# Altium integrated library Resistor - Current Sense.IntLib: 810 symbols (part 4 of 12)
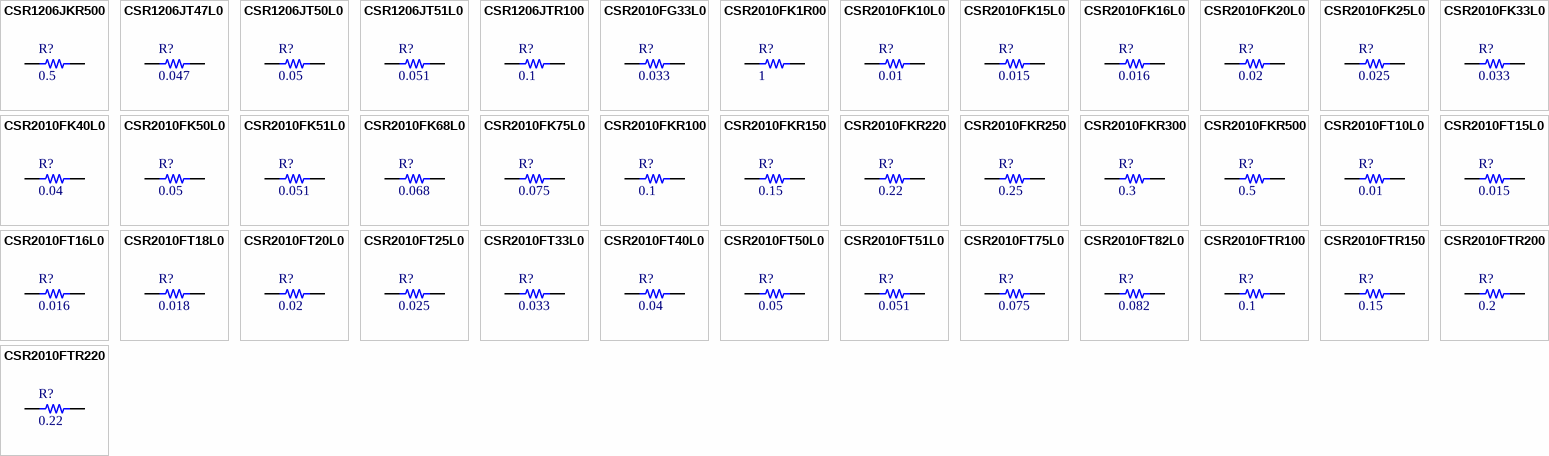
[diagram p23: symbols CSR1206JKR500 to CSR2010FTR220]

## CSR2010FK33L0
designator R?, comment 0.033
RES SMD 0.033 OHM 1% 1W 2010; Part Number: CSR2010FK33L0; Manufacturer: Stackpole Electronics Inc.; TemperatureRange: -55C ~ 155C; Value: 0.033; PartId: 10028; Supplier 1: Digi-Key; Supplier Part Number 1: CSR2010FK33L0-ND; ComponentLink1Description: Datasheet; ComponentLink1URL: http://www.seielect.com/catalog/SEI-CSR_CSRN.pdf; ComponentLink2Description: Digi-Key Listing; ComponentLink2URL: https://www.digikey.com/product-detail/en/stackpole-electronics-inc/CSR2010FK33L0/CSR2010FK33L0-ND/1742324; Tolerance: 1%; PowerRating: 1W; Price: 0.1787; Device Package: 2010 (5025 Metric)
footprint STACKPOLE CSR2010
pins: 1, 2

## CSR2010FK40L0
designator R?, comment 0.04
RES SMD 0.04 OHM 1% 1W 2010; Part Number: CSR2010FK40L0; Manufacturer: Stackpole Electronics Inc.; TemperatureRange: -55C ~ 155C; Value: 0.04; PartId: 10029; Supplier 1: Digi-Key; Supplier Part Number 1: CSR2010FK40L0-ND; ComponentLink1Description: Datasheet; ComponentLink1URL: http://www.seielect.com/catalog/SEI-CSR_CSRN.pdf; ComponentLink2Description: Digi-Key Listing; ComponentLink2URL: https://www.digikey.com/product-detail/en/stackpole-electronics-inc/CSR2010FK40L0/CSR2010FK40L0-ND/1742326; Tolerance: 1%; PowerRating: 1W; Price: 0.1787; Device Package: 2010 (5025 Metric)
footprint STACKPOLE CSR2010
pins: 1, 2

## CSR2010FK50L0
designator R?, comment 0.05
RES SMD 0.05 OHM 1% 1W 2010; Part Number: CSR2010FK50L0; Manufacturer: Stackpole Electronics Inc.; TemperatureRange: -55C ~ 155C; TemperatureCoefficient: 100ppm/C; Value: 0.05; PartId: 10030; Supplier 1: Digi-Key; Supplier Part Number 1: CSR2010FK50L0-ND; ComponentLink1Description: Datasheet; ComponentLink1URL: http://www.seielect.com/catalog/SEI-CSR_CSRN.pdf; ComponentLink2Description: Digi-Key Listing; ComponentLink2URL: https://www.digikey.com/product-detail/en/stackpole-electronics-inc/CSR2010FK50L0/CSR2010FK50L0-ND/1742328; Tolerance: 1%; PowerRating: 1W; Price: 0.1787; Device Package: 2010 (5025 Metric)
footprint STACKPOLE CSR2010
pins: 1, 2

## CSR2010FK51L0
designator R?, comment 0.051
RES SMD 0.051 OHM 1% 1W 2010; Part Number: CSR2010FK51L0; Manufacturer: Stackpole Electronics Inc.; TemperatureRange: -55C ~ 155C; TemperatureCoefficient: 100ppm/C; Value: 0.051; PartId: 10017; Supplier 1: Digi-Key; Supplier Part Number 1: CSR2010FK51L0-ND; ComponentLink1Description: Datasheet; ComponentLink1URL: http://www.seielect.com/catalog/SEI-CSR_CSRN.pdf; ComponentLink2Description: Digi-Key Listing; ComponentLink2URL: https://www.digikey.com/product-detail/en/stackpole-electronics-inc/CSR2010FK51L0/CSR2010FK51L0-ND/1742330; Tolerance: 1%; PowerRating: 1W; Price: 0.1526; Device Package: 2010 (5025 Metric)
footprint STACKPOLE CSR2010
pins: 1, 2

## CSR2010FK68L0
designator R?, comment 0.068
RES SMD 0.068 OHM 1% 1W 2010; Part Number: CSR2010FK68L0; Manufacturer: Stackpole Electronics Inc.; TemperatureRange: -55C ~ 155C; TemperatureCoefficient: 100ppm/C; Value: 0.068; PartId: 10018; Supplier 1: Digi-Key; Supplier Part Number 1: CSR2010FK68L0-ND; ComponentLink1Description: Datasheet; ComponentLink1URL: http://www.seielect.com/catalog/SEI-CSR_CSRN.pdf; ComponentLink2Description: Digi-Key Listing; ComponentLink2URL: https://www.digikey.com/product-detail/en/stackpole-electronics-inc/CSR2010FK68L0/CSR2010FK68L0-ND/1742332; Tolerance: 1%; PowerRating: 1W; Price: 0.1526; Device Package: 2010 (5025 Metric)
footprint STACKPOLE CSR2010
pins: 1, 2

## CSR2010FK75L0
designator R?, comment 0.075
RES SMD 0.075 OHM 1% 1W 2010; Part Number: CSR2010FK75L0; Manufacturer: Stackpole Electronics Inc.; TemperatureRange: -55C ~ 155C; TemperatureCoefficient: 100ppm/C; Value: 0.075; PartId: 10019; Supplier 1: Digi-Key; Supplier Part Number 1: CSR2010FK75L0-ND; ComponentLink1Description: Datasheet; ComponentLink1URL: http://www.seielect.com/catalog/SEI-CSR_CSRN.pdf; ComponentLink2Description: Digi-Key Listing; ComponentLink2URL: https://www.digikey.com/product-detail/en/stackpole-electronics-inc/CSR2010FK75L0/CSR2010FK75L0-ND/1742333; Tolerance: 1%; PowerRating: 1W; Price: 0.1526; Device Package: 2010 (5025 Metric)
footprint STACKPOLE CSR2010
pins: 1, 2

## CSR2010FKR100
designator R?, comment 0.1
RES SMD 0.1 OHM 1% 1W 2010; Part Number: CSR2010FKR100; Manufacturer: Stackpole Electronics Inc.; TemperatureRange: -55C ~ 155C; TemperatureCoefficient: 100ppm/C; Value: 0.1; PartId: 10020; Supplier 1: Digi-Key; Supplier Part Number 1: CSR2010FKR100-ND; ComponentLink1Description: Datasheet; ComponentLink1URL: http://www.seielect.com/catalog/SEI-CSR_CSRN.pdf; ComponentLink2Description: Digi-Key Listing; ComponentLink2URL: https://www.digikey.com/product-detail/en/stackpole-electronics-inc/CSR2010FKR100/CSR2010FKR100-ND/1742336; Tolerance: 1%; PowerRating: 1W; Price: 0.1526; Device Package: 2010 (5025 Metric)
footprint STACKPOLE CSR2010
pins: 1, 2

## CSR2010FKR150
designator R?, comment 0.15
RES SMD 0.15 OHM 1% 1W 2010; Part Number: CSR2010FKR150; Manufacturer: Stackpole Electronics Inc.; TemperatureRange: -55C ~ 155C; TemperatureCoefficient: 100ppm/C; Value: 0.15; PartId: 10008; Supplier 1: Digi-Key; Supplier Part Number 1: CSR2010FKR150-ND; ComponentLink1Description: Datasheet; ComponentLink1URL: http://www.seielect.com/catalog/SEI-CSR_CSRN.pdf; ComponentLink2Description: Digi-Key Listing; ComponentLink2URL: https://www.digikey.com/product-detail/en/stackpole-electronics-inc/CSR2010FKR150/CSR2010FKR150-ND/1742338; Tolerance: 1%; PowerRating: 1W; Price: 0.126; Device Package: 2010 (5025 Metric)
footprint STACKPOLE CSR2010
pins: 1, 2

## CSR2010FKR220
designator R?, comment 0.22
RES SMD 0.22 OHM 1% 1W 2010; Part Number: CSR2010FKR220; Manufacturer: Stackpole Electronics Inc.; TemperatureRange: -55C ~ 155C; TemperatureCoefficient: 100ppm/C; Value: 0.22; PartId: 10009; Supplier 1: Digi-Key; Supplier Part Number 1: CSR2010FKR220-ND; ComponentLink1Description: Datasheet; ComponentLink1URL: http://www.seielect.com/catalog/SEI-CSR_CSRN.pdf; ComponentLink2Description: Digi-Key Listing; ComponentLink2URL: https://www.digikey.com/product-detail/en/stackpole-electronics-inc/CSR2010FKR220/CSR2010FKR220-ND/1742342; Tolerance: 1%; PowerRating: 1W; Price: 0.126; Device Package: 2010 (5025 Metric)
footprint STACKPOLE CSR2010
pins: 1, 2

## CSR2010FKR250
designator R?, comment 0.25
RES SMD 0.25 OHM 1% 1W 2010; Part Number: CSR2010FKR250; Manufacturer: Stackpole Electronics Inc.; TemperatureRange: -55C ~ 155C; TemperatureCoefficient: 100ppm/C; Value: 0.25; PartId: 10010; Supplier 1: Digi-Key; Supplier Part Number 1: CSR2010FKR250-ND; ComponentLink1Description: Datasheet; ComponentLink1URL: http://www.seielect.com/catalog/SEI-CSR_CSRN.pdf; ComponentLink2Description: Digi-Key Listing; ComponentLink2URL: https://www.digikey.com/product-detail/en/stackpole-electronics-inc/CSR2010FKR250/CSR2010FKR250-ND/1742344; Tolerance: 1%; PowerRating: 1W; Price: 0.126; Device Package: 2010 (5025 Metric)
footprint STACKPOLE CSR2010
pins: 1, 2

## CSR2010FKR300
designator R?, comment 0.3
RES SMD 0.3 OHM 1% 1W 2010; Part Number: CSR2010FKR300; Manufacturer: Stackpole Electronics Inc.; TemperatureRange: -55C ~ 155C; TemperatureCoefficient: 100ppm/C; Value: 0.3; PartId: 10011; Supplier 1: Digi-Key; Supplier Part Number 1: CSR2010FKR300-ND; ComponentLink1Description: Datasheet; ComponentLink1URL: http://www.seielect.com/catalog/SEI-CSR_CSRN.pdf; ComponentLink2Description: Digi-Key Listing; ComponentLink2URL: https://www.digikey.com/product-detail/en/stackpole-electronics-inc/CSR2010FKR300/CSR2010FKR300-ND/1742346; Tolerance: 1%; PowerRating: 1W; Price: 0.126; Device Package: 2010 (5025 Metric)
footprint STACKPOLE CSR2010
pins: 1, 2

## CSR2010FKR500
designator R?, comment 0.5
RES SMD 0.5 OHM 1% 1W 2010; Part Number: CSR2010FKR500; Manufacturer: Stackpole Electronics Inc.; TemperatureRange: -55C ~ 155C; TemperatureCoefficient: 100ppm/C; Value: 0.5; PartId: 9998; Supplier 1: Digi-Key; Supplier Part Number 1: CSR2010FKR500-ND; ComponentLink1Description: Datasheet; ComponentLink1URL: http://www.seielect.com/catalog/SEI-CSR_CSRN.pdf; ComponentLink2Description: Digi-Key Listing; ComponentLink2URL: https://www.digikey.com/product-detail/en/stackpole-electronics-inc/CSR2010FKR500/CSR2010FKR500-ND/1742354; Tolerance: 1%; PowerRating: 1W; Price: 0.098; Device Package: 2010 (5025 Metric)
footprint STACKPOLE CSR2010
pins: 1, 2

## CSR2010FT10L0
designator R?, comment 0.01
RES SMD 0.01 OHM 1% 1W 2010; Part Number: CSR2010FT10L0; Manufacturer: Stackpole Electronics Inc.; TemperatureRange: -55C ~ 155C; Value: 0.01; PartId: 10034; Supplier 1: Digi-Key; Supplier Part Number 1: CSR2010FT10L0TR-ND; ComponentLink1Description: Datasheet; ComponentLink1URL: http://www.seielect.com/catalog/SEI-CSR_CSRN.pdf; ComponentLink2Description: Digi-Key Listing; ComponentLink2URL: https://www.digikey.com/product-detail/en/stackpole-electronics-inc/CSR2010FT10L0/CSR2010FT10L0TR-ND/2027020; Tolerance: 1%; PowerRating: 1W; Price: 0.1862; Device Package: 2010 (5025 Metric)
footprint STACKPOLE CSR2010
pins: 1, 2

## CSR2010FT15L0
designator R?, comment 0.015
RES SMD 0.015 OHM 1% 1W 2010; Part Number: CSR2010FT15L0; Manufacturer: Stackpole Electronics Inc.; TemperatureRange: -55C ~ 155C; Value: 0.015; PartId: 10031; Supplier 1: Digi-Key; Supplier Part Number 1: CSR2010FT15L0-ND; ComponentLink1Description: Datasheet; ComponentLink1URL: http://www.seielect.com/catalog/SEI-CSR_CSRN.pdf; ComponentLink2Description: Digi-Key Listing; ComponentLink2URL: https://www.digikey.com/product-detail/en/stackpole-electronics-inc/CSR2010FT15L0/CSR2010FT15L0-ND/1742314; Tolerance: 1%; PowerRating: 1W; Price: 0.1862; Device Package: 2010 (5025 Metric)
footprint STACKPOLE CSR2010
pins: 1, 2

## CSR2010FT16L0
designator R?, comment 0.016
RES SMD 0.016 OHM 1% 1W 2010; Part Number: CSR2010FT16L0; Manufacturer: Stackpole Electronics Inc.; TemperatureRange: -55C ~ 155C; Value: 0.016; PartId: 10032; Supplier 1: Digi-Key; Supplier Part Number 1: CSR2010FT16L0-ND; ComponentLink1Description: Datasheet; ComponentLink1URL: http://www.seielect.com/catalog/SEI-CSR_CSRN.pdf; ComponentLink2Description: Digi-Key Listing; ComponentLink2URL: https://www.digikey.com/product-detail/en/stackpole-electronics-inc/CSR2010FT16L0/CSR2010FT16L0-ND/1742316; Tolerance: 1%; PowerRating: 1W; Price: 0.1862; Device Package: 2010 (5025 Metric)
footprint STACKPOLE CSR2010
pins: 1, 2

## CSR2010FT18L0
designator R?, comment 0.018
RES SMD 0.018 OHM 1% 1W 2010; Part Number: CSR2010FT18L0; Manufacturer: Stackpole Electronics Inc.; TemperatureRange: -55C ~ 155C; Value: 0.018; PartId: 10033; Supplier 1: Digi-Key; Supplier Part Number 1: CSR2010FT18L0-ND; ComponentLink1Description: Datasheet; ComponentLink1URL: http://www.seielect.com/catalog/SEI-CSR_CSRN.pdf; ComponentLink2Description: Digi-Key Listing; ComponentLink2URL: https://www.digikey.com/product-detail/en/stackpole-electronics-inc/CSR2010FT18L0/CSR2010FT18L0-ND/1742317; Tolerance: 1%; PowerRating: 1W; Price: 0.1862; Device Package: 2010 (5025 Metric)
footprint STACKPOLE CSR2010
pins: 1, 2

## CSR2010FT20L0
designator R?, comment 0.02
RES SMD 0.02 OHM 1% 1W 2010; Part Number: CSR2010FT20L0; Manufacturer: Stackpole Electronics Inc.; TemperatureRange: -55C ~ 155C; Value: 0.02; PartId: 10022; Supplier 1: Digi-Key; Supplier Part Number 1: CSR2010FT20L0-ND; ComponentLink1Description: Datasheet; ComponentLink1URL: http://www.seielect.com/catalog/SEI-CSR_CSRN.pdf; ComponentLink2Description: Digi-Key Listing; ComponentLink2URL: https://www.digikey.com/product-detail/en/stackpole-electronics-inc/CSR2010FT20L0/CSR2010FT20L0-ND/1742319; Tolerance: 1%; PowerRating: 1W; Price: 0.1729; Device Package: 2010 (5025 Metric)
footprint STACKPOLE CSR2010
pins: 1, 2

## CSR2010FT25L0
designator R?, comment 0.025
RES SMD 0.025 OHM 1% 1W 2010; Part Number: CSR2010FT25L0; Manufacturer: Stackpole Electronics Inc.; TemperatureRange: -55C ~ 155C; Value: 0.025; PartId: 10023; Supplier 1: Digi-Key; Supplier Part Number 1: CSR2010FT25L0-ND; ComponentLink1Description: Datasheet; ComponentLink1URL: http://www.seielect.com/catalog/SEI-CSR_CSRN.pdf; ComponentLink2Description: Digi-Key Listing; ComponentLink2URL: https://www.digikey.com/product-detail/en/stackpole-electronics-inc/CSR2010FT25L0/CSR2010FT25L0-ND/1742321; Tolerance: 1%; PowerRating: 1W; Price: 0.1729; Device Package: 2010 (5025 Metric)
footprint STACKPOLE CSR2010
pins: 1, 2

## CSR2010FT33L0
designator R?, comment 0.033
RES SMD 0.033 OHM 1% 1W 2010; Part Number: CSR2010FT33L0; Manufacturer: Stackpole Electronics Inc.; TemperatureRange: -55C ~ 155C; Value: 0.033; PartId: 10024; Supplier 1: Digi-Key; Supplier Part Number 1: CSR2010FT33L0-ND; ComponentLink1Description: Datasheet; ComponentLink1URL: http://www.seielect.com/catalog/SEI-CSR_CSRN.pdf; ComponentLink2Description: Digi-Key Listing; ComponentLink2URL: https://www.digikey.com/product-detail/en/stackpole-electronics-inc/CSR2010FT33L0/CSR2010FT33L0-ND/1742325; Tolerance: 1%; PowerRating: 1W; Price: 0.1729; Device Package: 2010 (5025 Metric)
footprint STACKPOLE CSR2010
pins: 1, 2

## CSR2010FT40L0
designator R?, comment 0.04
RES SMD 0.04 OHM 1% 1W 2010; Part Number: CSR2010FT40L0; Manufacturer: Stackpole Electronics Inc.; TemperatureRange: -55C ~ 155C; Value: 0.04; PartId: 10025; Supplier 1: Digi-Key; Supplier Part Number 1: CSR2010FT40L0-ND; ComponentLink1Description: Datasheet; ComponentLink1URL: http://www.seielect.com/catalog/SEI-CSR_CSRN.pdf; ComponentLink2Description: Digi-Key Listing; ComponentLink2URL: https://www.digikey.com/product-detail/en/stackpole-electronics-inc/CSR2010FT40L0/CSR2010FT40L0-ND/1742327; Tolerance: 1%; PowerRating: 1W; Price: 0.1729; Device Package: 2010 (5025 Metric)
footprint STACKPOLE CSR2010
pins: 1, 2

## CSR2010FT50L0
designator R?, comment 0.05
RES SMD 0.05 OHM 1% 1W 2010; Part Number: CSR2010FT50L0; Manufacturer: Stackpole Electronics Inc.; TemperatureRange: -55C ~ 155C; TemperatureCoefficient: 100ppm/C; Value: 0.05; PartId: 10026; Supplier 1: Digi-Key; Supplier Part Number 1: CSR2010FT50L0-ND; ComponentLink1Description: Datasheet; ComponentLink1URL: http://www.seielect.com/catalog/SEI-CSR_CSRN.pdf; ComponentLink2Description: Digi-Key Listing; ComponentLink2URL: https://www.digikey.com/product-detail/en/stackpole-electronics-inc/CSR2010FT50L0/CSR2010FT50L0-ND/1742329; Tolerance: 1%; PowerRating: 1W; Price: 0.1729; Device Package: 2010 (5025 Metric)
footprint STACKPOLE CSR2010
pins: 1, 2

## CSR2010FT51L0
designator R?, comment 0.051
RES SMD 0.051 OHM 1% 1W 2010; Part Number: CSR2010FT51L0; Manufacturer: Stackpole Electronics Inc.; TemperatureRange: -55C ~ 155C; TemperatureCoefficient: 100ppm/C; Value: 0.051; PartId: 10013; Supplier 1: Digi-Key; Supplier Part Number 1: CSR2010FT51L0-ND; ComponentLink1Description: Datasheet; ComponentLink1URL: http://www.seielect.com/catalog/SEI-CSR_CSRN.pdf; ComponentLink2Description: Digi-Key Listing; ComponentLink2URL: https://www.digikey.com/product-detail/en/stackpole-electronics-inc/CSR2010FT51L0/CSR2010FT51L0-ND/1742331; Tolerance: 1%; PowerRating: 1W; Price: 0.1474; Device Package: 2010 (5025 Metric)
footprint STACKPOLE CSR2010
pins: 1, 2

## CSR2010FT75L0
designator R?, comment 0.075
RES SMD 0.075 OHM 1% 1W 2010; Part Number: CSR2010FT75L0; Manufacturer: Stackpole Electronics Inc.; TemperatureRange: -55C ~ 155C; TemperatureCoefficient: 100ppm/C; Value: 0.075; PartId: 10014; Supplier 1: Digi-Key; Supplier Part Number 1: CSR2010FT75L0-ND; ComponentLink1Description: Datasheet; ComponentLink1URL: http://www.seielect.com/catalog/SEI-CSR_CSRN.pdf; ComponentLink2Description: Digi-Key Listing; ComponentLink2URL: https://www.digikey.com/product-detail/en/stackpole-electronics-inc/CSR2010FT75L0/CSR2010FT75L0-ND/1742334; Tolerance: 1%; PowerRating: 1W; Price: 0.1474; Device Package: 2010 (5025 Metric)
footprint STACKPOLE CSR2010
pins: 1, 2

## CSR2010FT82L0
designator R?, comment 0.082
RES SMD 0.082 OHM 1% 1W 2010; Part Number: CSR2010FT82L0; Manufacturer: Stackpole Electronics Inc.; TemperatureRange: -55C ~ 155C; TemperatureCoefficient: 100ppm/C; Value: 0.082; PartId: 10015; Supplier 1: Digi-Key; Supplier Part Number 1: CSR2010FT82L0-ND; ComponentLink1Description: Datasheet; ComponentLink1URL: http://www.seielect.com/catalog/SEI-CSR_CSRN.pdf; ComponentLink2Description: Digi-Key Listing; ComponentLink2URL: https://www.digikey.com/product-detail/en/stackpole-electronics-inc/CSR2010FT82L0/CSR2010FT82L0-ND/1742335; Tolerance: 1%; PowerRating: 1W; Price: 0.1474; Device Package: 2010 (5025 Metric)
footprint STACKPOLE CSR2010
pins: 1, 2

## CSR2010FTR100
designator R?, comment 0.1
RES SMD 0.1 OHM 1% 1W 2010; Part Number: CSR2010FTR100; Manufacturer: Stackpole Electronics Inc.; TemperatureRange: -55C ~ 155C; TemperatureCoefficient: 100ppm/C; Value: 0.1; PartId: 10016; Supplier 1: Digi-Key; Supplier Part Number 1: CSR2010FTR100-ND; ComponentLink1Description: Datasheet; ComponentLink1URL: http://www.seielect.com/catalog/SEI-CSR_CSRN.pdf; ComponentLink2Description: Digi-Key Listing; ComponentLink2URL: https://www.digikey.com/product-detail/en/stackpole-electronics-inc/CSR2010FTR100/CSR2010FTR100-ND/1742337; Tolerance: 1%; PowerRating: 1W; Price: 0.1474; Device Package: 2010 (5025 Metric)
footprint STACKPOLE CSR2010
pins: 1, 2

## CSR2010FTR150
designator R?, comment 0.15
RES SMD 0.15 OHM 1% 1W 2010; Part Number: CSR2010FTR150; Manufacturer: Stackpole Electronics Inc.; TemperatureRange: -55C ~ 155C; TemperatureCoefficient: 100ppm/C; Value: 0.15; PartId: 9990; Supplier 1: Digi-Key; Supplier Part Number 1: CSR2010FTR150TR-ND; ComponentLink1Description: Datasheet; ComponentLink1URL: http://www.seielect.com/catalog/SEI-CSR_CSRN.pdf; ComponentLink2Description: Digi-Key Listing; ComponentLink2URL: https://www.digikey.com/product-detail/en/stackpole-electronics-inc/CSR2010FTR150/CSR2010FTR150TR-ND/2026994; Tolerance: 1%; PowerRating: 1W; Price: 0.1215; Device Package: 2010 (5025 Metric)
footprint STACKPOLE CSR2010
pins: 1, 2

## CSR2010FTR200
designator R?, comment 0.2
RES SMD 0.2 OHM 1% 1W 2010; Part Number: CSR2010FTR200; Manufacturer: Stackpole Electronics Inc.; TemperatureRange: -55C ~ 155C; TemperatureCoefficient: 100ppm/C; Value: 0.2; PartId: 10001; Supplier 1: Digi-Key; Supplier Part Number 1: CSR2010FTR200-ND; ComponentLink1Description: Datasheet; ComponentLink1URL: http://www.seielect.com/catalog/SEI-CSR_CSRN.pdf; ComponentLink2Description: Digi-Key Listing; ComponentLink2URL: https://www.digikey.com/product-detail/en/stackpole-electronics-inc/CSR2010FTR200/CSR2010FTR200-ND/1742341; Tolerance: 1%; PowerRating: 1W; Price: 0.1215; Device Package: 2010 (5025 Metric)
footprint STACKPOLE CSR2010
pins: 1, 2

## CSR2010FTR220
designator R?, comment 0.22
RES SMD 0.22 OHM 1% 1W 2010; Part Number: CSR2010FTR220; Manufacturer: Stackpole Electronics Inc.; TemperatureRange: -55C ~ 155C; TemperatureCoefficient: 100ppm/C; Value: 0.22; PartId: 10002; Supplier 1: Digi-Key; Supplier Part Number 1: CSR2010FTR220-ND; ComponentLink1Description: Datasheet; ComponentLink1URL: http://www.seielect.com/catalog/SEI-CSR_CSRN.pdf; ComponentLink2Description: Digi-Key Listing; ComponentLink2URL: https://www.digikey.com/product-detail/en/stackpole-electronics-inc/CSR2010FTR220/CSR2010FTR220-ND/1742343; Tolerance: 1%; PowerRating: 1W; Price: 0.1215; Device Package: 2010 (5025 Metric)
footprint STACKPOLE CSR2010
pins: 1, 2

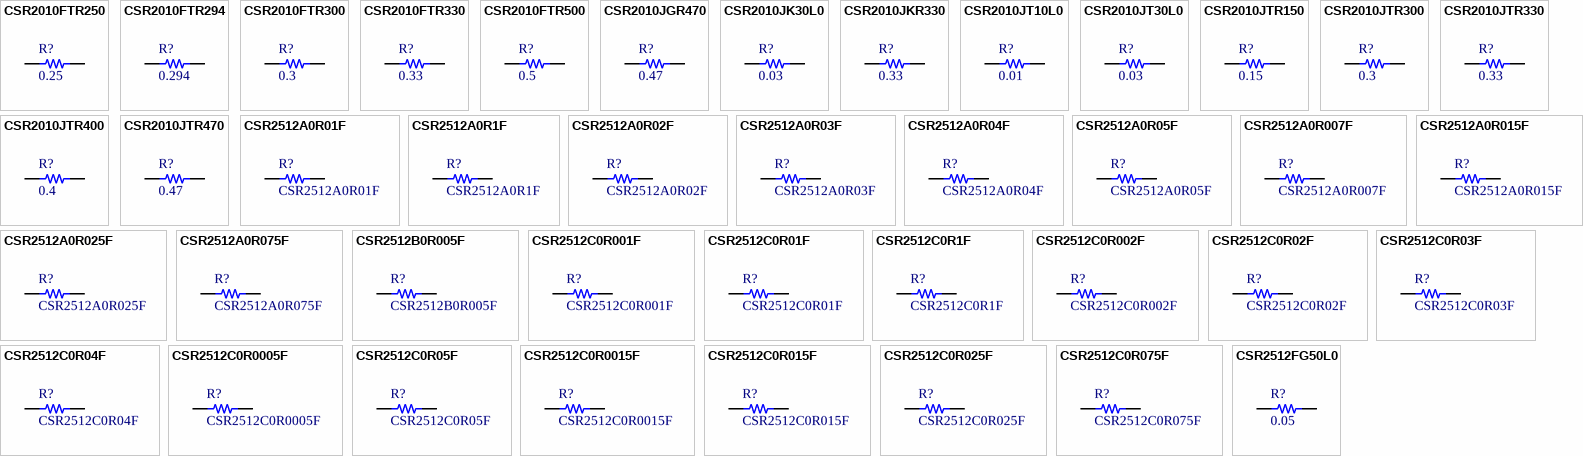
[diagram p6: symbols CSR2010FTR250 to CSR2512FG50L0]

## CSR2010FTR250
designator R?, comment 0.25
RES SMD 0.25 OHM 1% 1W 2010; Part Number: CSR2010FTR250; Manufacturer: Stackpole Electronics Inc.; TemperatureRange: -55C ~ 155C; TemperatureCoefficient: 100ppm/C; Value: 0.25; PartId: 10003; Supplier 1: Digi-Key; Supplier Part Number 1: CSR2010FTR250-ND; ComponentLink1Description: Datasheet; ComponentLink1URL: http://www.seielect.com/catalog/SEI-CSR_CSRN.pdf; ComponentLink2Description: Digi-Key Listing; ComponentLink2URL: https://www.digikey.com/product-detail/en/stackpole-electronics-inc/CSR2010FTR250/CSR2010FTR250-ND/1742345; Tolerance: 1%; PowerRating: 1W; Price: 0.1215; Device Package: 2010 (5025 Metric)
footprint STACKPOLE CSR2010
pins: 1, 2

## CSR2010FTR294
designator R?, comment 0.294
RES SMD 0.294 OHM 1% 1W 2010; Part Number: CSR2010FTR294; Manufacturer: Stackpole Electronics Inc.; TemperatureRange: -55C ~ 155C; TemperatureCoefficient: 100ppm/C; Value: 0.294; PartId: 10006; Supplier 1: Digi-Key; Supplier Part Number 1: CSR2010FTR294TR-ND; ComponentLink1Description: Datasheet; ComponentLink1URL: http://www.seielect.com/catalog/SEI-CSR_CSRN.pdf; ComponentLink2Description: Digi-Key Listing; ComponentLink2URL: https://www.digikey.com/product-detail/en/stackpole-electronics-inc/CSR2010FTR294/CSR2010FTR294TR-ND/2027022; Tolerance: 1%; PowerRating: 1W; Price: 0.1215; Device Package: 2010 (5025 Metric)
footprint STACKPOLE CSR2010
pins: 1, 2

## CSR2010FTR300
designator R?, comment 0.3
RES SMD 0.3 OHM 1% 1W 2010; Part Number: CSR2010FTR300; Manufacturer: Stackpole Electronics Inc.; TemperatureRange: -55C ~ 155C; TemperatureCoefficient: 100ppm/C; Value: 0.3; PartId: 10004; Supplier 1: Digi-Key; Supplier Part Number 1: CSR2010FTR300-ND; ComponentLink1Description: Datasheet; ComponentLink1URL: http://www.seielect.com/catalog/SEI-CSR_CSRN.pdf; ComponentLink2Description: Digi-Key Listing; ComponentLink2URL: https://www.digikey.com/product-detail/en/stackpole-electronics-inc/CSR2010FTR300/CSR2010FTR300-ND/1742347; Tolerance: 1%; PowerRating: 1W; Price: 0.1215; Device Package: 2010 (5025 Metric)
footprint STACKPOLE CSR2010
pins: 1, 2

## CSR2010FTR330
designator R?, comment 0.33
RES SMD 0.33 OHM 1% 1W 2010; Part Number: CSR2010FTR330; Manufacturer: Stackpole Electronics Inc.; TemperatureRange: -55C ~ 155C; TemperatureCoefficient: 100ppm/C; Value: 0.33; PartId: 10005; Supplier 1: Digi-Key; Supplier Part Number 1: CSR2010FTR330-ND; ComponentLink1Description: Datasheet; ComponentLink1URL: http://www.seielect.com/catalog/SEI-CSR_CSRN.pdf; ComponentLink2Description: Digi-Key Listing; ComponentLink2URL: https://www.digikey.com/product-detail/en/stackpole-electronics-inc/CSR2010FTR330/CSR2010FTR330-ND/1742349; Tolerance: 1%; PowerRating: 1W; Price: 0.1215; Device Package: 2010 (5025 Metric)
footprint STACKPOLE CSR2010
pins: 1, 2

## CSR2010FTR500
designator R?, comment 0.5
RES SMD 0.5 OHM 1% 1W 2010; Part Number: CSR2010FTR500; Manufacturer: Stackpole Electronics Inc.; TemperatureRange: -55C ~ 155C; TemperatureCoefficient: 100ppm/C; Value: 0.5; PartId: 9997; Supplier 1: Digi-Key; Supplier Part Number 1: CSR2010FTR500-ND; ComponentLink1Description: Datasheet; ComponentLink1URL: http://www.seielect.com/catalog/SEI-CSR_CSRN.pdf; ComponentLink2Description: Digi-Key Listing; ComponentLink2URL: https://www.digikey.com/product-detail/en/stackpole-electronics-inc/CSR2010FTR500/CSR2010FTR500-ND/1742355; Tolerance: 1%; PowerRating: 1W; Price: 0.0945; Device Package: 2010 (5025 Metric)
footprint STACKPOLE CSR2010
pins: 1, 2

## CSR2010JGR470
designator R?, comment 0.47
RES SMD 0.47 OHM 5% 1W 2010; Part Number: CSR2010JGR470; Manufacturer: Stackpole Electronics Inc.; TemperatureRange: -55C ~ 155C; TemperatureCoefficient: 100ppm/C; Value: 0.47; PartId: 9991; Supplier 1: Digi-Key; Supplier Part Number 1: CSR2010JGR470TR-ND; ComponentLink1Description: Datasheet; ComponentLink1URL: http://www.seielect.com/catalog/SEI-CSR_CSRN.pdf; ComponentLink2Description: Digi-Key Listing; ComponentLink2URL: https://www.digikey.com/product-detail/en/stackpole-electronics-inc/CSR2010JGR470/CSR2010JGR470TR-ND/2027023; Tolerance: 5%; PowerRating: 1W; Price: 0.0675; Device Package: 2010 (5025 Metric)
footprint STACKPOLE CSR2010
pins: 1, 2

## CSR2010JK30L0
designator R?, comment 0.03
RES SMD 0.03 OHM 5% 1W 2010; Part Number: CSR2010JK30L0; Manufacturer: Stackpole Electronics Inc.; TemperatureRange: -55C ~ 155C; Value: 0.03; PartId: 10007; Supplier 1: Digi-Key; Supplier Part Number 1: CSR2010JK30L0-ND; ComponentLink1Description: Datasheet; ComponentLink1URL: http://www.seielect.com/catalog/SEI-CSR_CSRN.pdf; ComponentLink2Description: Digi-Key Listing; ComponentLink2URL: https://www.digikey.com/product-detail/en/stackpole-electronics-inc/CSR2010JK30L0/CSR2010JK30L0-ND/1742322; Tolerance: 5%; PowerRating: 1W; Price: 0.126; Device Package: 2010 (5025 Metric)
footprint STACKPOLE CSR2010
pins: 1, 2

## CSR2010JKR330
designator R?, comment 0.33
RES SMD 0.33 OHM 5% 1W 2010; Part Number: CSR2010JKR330; Manufacturer: Stackpole Electronics Inc.; TemperatureRange: -55C ~ 155C; TemperatureCoefficient: 100ppm/C; Value: 0.33; PartId: 9996; Supplier 1: Digi-Key; Supplier Part Number 1: CSR2010JKR330-ND; ComponentLink1Description: Datasheet; ComponentLink1URL: http://www.seielect.com/catalog/SEI-CSR_CSRN.pdf; ComponentLink2Description: Digi-Key Listing; ComponentLink2URL: https://www.digikey.com/product-detail/en/stackpole-electronics-inc/CSR2010JKR330/CSR2010JKR330-ND/1742350; Tolerance: 5%; PowerRating: 1W; Price: 0.08; Device Package: 2010 (5025 Metric)
footprint STACKPOLE CSR2010
pins: 1, 2

## CSR2010JT10L0
designator R?, comment 0.01
RES SMD 0.01 OHM 5% 1W 2010; Part Number: CSR2010JT10L0; Manufacturer: Stackpole Electronics Inc.; TemperatureRange: -55C ~ 155C; Value: 0.01; PartId: 10012; Supplier 1: Digi-Key; Supplier Part Number 1: CSR2010JT10L0-ND; ComponentLink1Description: Datasheet; ComponentLink1URL: http://www.seielect.com/catalog/SEI-CSR_CSRN.pdf; ComponentLink2Description: Digi-Key Listing; ComponentLink2URL: https://www.digikey.com/product-detail/en/stackpole-electronics-inc/CSR2010JT10L0/CSR2010JT10L0-ND/1742312; Tolerance: 5%; PowerRating: 1W; Price: 0.1474; Device Package: 2010 (5025 Metric)
footprint STACKPOLE CSR2010
pins: 1, 2

## CSR2010JT30L0
designator R?, comment 0.03
RES SMD 0.03 OHM 5% 1W 2010; Part Number: CSR2010JT30L0; Manufacturer: Stackpole Electronics Inc.; TemperatureRange: -55C ~ 155C; Value: 0.03; PartId: 10000; Supplier 1: Digi-Key; Supplier Part Number 1: CSR2010JT30L0-ND; ComponentLink1Description: Datasheet; ComponentLink1URL: http://www.seielect.com/catalog/SEI-CSR_CSRN.pdf; ComponentLink2Description: Digi-Key Listing; ComponentLink2URL: https://www.digikey.com/product-detail/en/stackpole-electronics-inc/CSR2010JT30L0/CSR2010JT30L0-ND/1742323; Tolerance: 5%; PowerRating: 1W; Price: 0.1215; Device Package: 2010 (5025 Metric)
footprint STACKPOLE CSR2010
pins: 1, 2

## CSR2010JTR150
designator R?, comment 0.15
RES SMD 0.15 OHM 5% 1W 2010; Part Number: CSR2010JTR150; Manufacturer: Stackpole Electronics Inc.; TemperatureRange: -55C ~ 155C; TemperatureCoefficient: 100ppm/C; Value: 0.15; PartId: 9992; Supplier 1: Digi-Key; Supplier Part Number 1: CSR2010JTR150-ND; ComponentLink1Description: Datasheet; ComponentLink1URL: http://www.seielect.com/catalog/SEI-CSR_CSRN.pdf; ComponentLink2Description: Digi-Key Listing; ComponentLink2URL: https://www.digikey.com/product-detail/en/stackpole-electronics-inc/CSR2010JTR150/CSR2010JTR150-ND/1742340; Tolerance: 5%; PowerRating: 1W; Price: 0.075; Device Package: 2010 (5025 Metric)
footprint STACKPOLE CSR2010
pins: 1, 2

## CSR2010JTR300
designator R?, comment 0.3
RES SMD 0.3 OHM 5% 1W 2010; Part Number: CSR2010JTR300; Manufacturer: Stackpole Electronics Inc.; TemperatureRange: -55C ~ 155C; TemperatureCoefficient: 100ppm/C; Value: 0.3; PartId: 9989; Supplier 1: Digi-Key; Supplier Part Number 1: CSR2010JTR300TR-ND; ComponentLink1Description: Datasheet; ComponentLink1URL: http://www.seielect.com/catalog/SEI-CSR_CSRN.pdf; ComponentLink2Description: Digi-Key Listing; ComponentLink2URL: https://www.digikey.com/product-detail/en/stackpole-electronics-inc/CSR2010JTR300/CSR2010JTR300TR-ND/1742348; Tolerance: 5%; PowerRating: 1W; Price: 0.075; Device Package: 2010 (5025 Metric)
footprint STACKPOLE CSR2010
pins: 1, 2

## CSR2010JTR330
designator R?, comment 0.33
RES SMD 0.33 OHM 5% 1W 2010; Part Number: CSR2010JTR330; Manufacturer: Stackpole Electronics Inc.; TemperatureRange: -55C ~ 155C; TemperatureCoefficient: 100ppm/C; Value: 0.33; PartId: 9993; Supplier 1: Digi-Key; Supplier Part Number 1: CSR2010JTR330-ND; ComponentLink1Description: Datasheet; ComponentLink1URL: http://www.seielect.com/catalog/SEI-CSR_CSRN.pdf; ComponentLink2Description: Digi-Key Listing; ComponentLink2URL: https://www.digikey.com/product-detail/en/stackpole-electronics-inc/CSR2010JTR330/CSR2010JTR330-ND/1742351; Tolerance: 5%; PowerRating: 1W; Price: 0.075; Device Package: 2010 (5025 Metric)
footprint STACKPOLE CSR2010
pins: 1, 2

## CSR2010JTR400
designator R?, comment 0.4
RES SMD 0.4 OHM 5% 1W 2010; Part Number: CSR2010JTR400; Manufacturer: Stackpole Electronics Inc.; TemperatureRange: -55C ~ 155C; TemperatureCoefficient: 100ppm/C; Value: 0.4; PartId: 9994; Supplier 1: Digi-Key; Supplier Part Number 1: CSR2010JTR400-ND; ComponentLink1Description: Datasheet; ComponentLink1URL: http://www.seielect.com/catalog/SEI-CSR_CSRN.pdf; ComponentLink2Description: Digi-Key Listing; ComponentLink2URL: https://www.digikey.com/product-detail/en/stackpole-electronics-inc/CSR2010JTR400/CSR2010JTR400-ND/1742352; Tolerance: 5%; PowerRating: 1W; Price: 0.075; Device Package: 2010 (5025 Metric)
footprint STACKPOLE CSR2010
pins: 1, 2

## CSR2010JTR470
designator R?, comment 0.47
RES SMD 0.47 OHM 5% 1W 2010; Part Number: CSR2010JTR470; Manufacturer: Stackpole Electronics Inc.; TemperatureRange: -55C ~ 155C; TemperatureCoefficient: 100ppm/C; Value: 0.47; PartId: 9995; Supplier 1: Digi-Key; Supplier Part Number 1: CSR2010JTR470-ND; ComponentLink1Description: Datasheet; ComponentLink1URL: http://www.seielect.com/catalog/SEI-CSR_CSRN.pdf; ComponentLink2Description: Digi-Key Listing; ComponentLink2URL: https://www.digikey.com/product-detail/en/stackpole-electronics-inc/CSR2010JTR470/CSR2010JTR470-ND/1742353; Tolerance: 5%; PowerRating: 1W; Price: 0.075; Device Package: 2010 (5025 Metric)
footprint STACKPOLE CSR2010
pins: 1, 2

## CSR2512A0R01F
designator R?
RES SMD 0.01 OHM 1% 2W 2512; Manufacturer: Riedon; Value: 0.01; TemperatureRange: -55C ~ 170C; TemperatureCoefficient: 50ppm/C; Part Number: CSR2512A0R01F; PartId: 21410; Supplier 1: Digi-Key; Supplier Part Number 1: 696-1180-2-ND; ComponentLink1Description: Datasheet; ComponentLink1URL: http://riedon.com/media/pdf/CSR.pdf; ComponentLink2Description: Digi-Key Listing; ComponentLink2URL: https://www.digikey.com/product-detail/en/riedon/CSR2512A0R01F/696-1180-2-ND/2813300; Tolerance: 1%; PowerRating: 2W; Price: 0.1928; Device Package: 2512 (6432 Metric)
footprint STACKPOLE CSR2512
pins: 1, 2

## CSR2512A0R1F
designator R?
RES SMD 0.1 OHM 1% 2W 2512; Manufacturer: Riedon; Value: 0.1; TemperatureRange: -55C ~ 170C; TemperatureCoefficient: 50ppm/C; Part Number: CSR2512A0R1F; PartId: 21362; Supplier 1: Digi-Key; Supplier Part Number 1: 696-1671-2-ND; ComponentLink1Description: Datasheet; ComponentLink1URL: http://riedon.com/media/pdf/CSR.pdf; ComponentLink2Description: Digi-Key Listing; ComponentLink2URL: https://www.digikey.com/product-detail/en/riedon/CSR2512A0R1F/696-1671-2-ND/5723633; Tolerance: 1%; PowerRating: 2W; Price: 0.1729; Device Package: 2512 (6432 Metric)
footprint STACKPOLE CSR2512
pins: 1, 2

## CSR2512A0R02F
designator R?
RES SMD 0.02 OHM 1% 2W 2512; Manufacturer: Riedon; Value: 0.02; TemperatureRange: -55C ~ 170C; TemperatureCoefficient: 50ppm/C; Part Number: CSR2512A0R02F; PartId: 21356; Supplier 1: Digi-Key; Supplier Part Number 1: 696-1665-2-ND; ComponentLink1Description: Datasheet; ComponentLink1URL: http://riedon.com/media/pdf/CSR.pdf; ComponentLink2Description: Digi-Key Listing; ComponentLink2URL: https://www.digikey.com/product-detail/en/riedon/CSR2512A0R02F/696-1665-2-ND/5723627; Tolerance: 1%; PowerRating: 2W; Price: 0.1729; Device Package: 2512 (6432 Metric)
footprint STACKPOLE CSR2512
pins: 1, 2

## CSR2512A0R03F
designator R?
RES SMD 0.03 OHM 1% 2W 2512; Manufacturer: Riedon; Value: 0.03; TemperatureRange: -55C ~ 170C; TemperatureCoefficient: 50ppm/C; Part Number: CSR2512A0R03F; PartId: 21378; Supplier 1: Digi-Key; Supplier Part Number 1: 696-1667-2-ND; ComponentLink1Description: Datasheet; ComponentLink1URL: http://riedon.com/media/pdf/CSR.pdf; ComponentLink2Description: Digi-Key Listing; ComponentLink2URL: https://www.digikey.com/product-detail/en/riedon/CSR2512A0R03F/696-1667-2-ND/5723629; Tolerance: 1%; PowerRating: 2W; Price: 0.1729; Device Package: 2512 (6432 Metric)
footprint STACKPOLE CSR2512
pins: 1, 2

## CSR2512A0R04F
designator R?
RES SMD 0.04 OHM 1% 2W 2512; Manufacturer: Riedon; Value: 0.04; TemperatureRange: -55C ~ 170C; TemperatureCoefficient: 50ppm/C; Part Number: CSR2512A0R04F; PartId: 21379; Supplier 1: Digi-Key; Supplier Part Number 1: 696-1668-2-ND; ComponentLink1Description: Datasheet; ComponentLink1URL: http://riedon.com/media/pdf/CSR.pdf; ComponentLink2Description: Digi-Key Listing; ComponentLink2URL: https://www.digikey.com/product-detail/en/riedon/CSR2512A0R04F/696-1668-2-ND/5723630; Tolerance: 1%; PowerRating: 2W; Price: 0.1729; Device Package: 2512 (6432 Metric)
footprint STACKPOLE CSR2512
pins: 1, 2

## CSR2512A0R05F
designator R?
RES SMD 0.05 OHM 1% 2W 2512; Manufacturer: Riedon; Value: 0.05; TemperatureRange: -55C ~ 170C; TemperatureCoefficient: 50ppm/C; Part Number: CSR2512A0R05F; PartId: 21361; Supplier 1: Digi-Key; Supplier Part Number 1: 696-1669-2-ND; ComponentLink1Description: Datasheet; ComponentLink1URL: http://riedon.com/media/pdf/CSR.pdf; ComponentLink2Description: Digi-Key Listing; ComponentLink2URL: https://www.digikey.com/product-detail/en/riedon/CSR2512A0R05F/696-1669-2-ND/5723631; Tolerance: 1%; PowerRating: 2W; Price: 0.1729; Device Package: 2512 (6432 Metric)
footprint STACKPOLE CSR2512
pins: 1, 2

## CSR2512A0R007F
designator R?
RES SMD 0.007 OHM 1% 2W 2512; Manufacturer: Riedon; Value: 0.007; TemperatureRange: -55C ~ 170C; TemperatureCoefficient: 50ppm/C; Part Number: CSR2512A0R007F; PartId: 21411; Supplier 1: Digi-Key; Supplier Part Number 1: 696-1179-2-ND; ComponentLink1Description: Datasheet; ComponentLink1URL: http://riedon.com/media/pdf/CSR.pdf; ComponentLink2Description: Digi-Key Listing; ComponentLink2URL: https://www.digikey.com/product-detail/en/riedon/CSR2512A0R007F/696-1179-2-ND/2813299; Tolerance: 1%; PowerRating: 2W; Price: 0.1928; Device Package: 2512 (6432 Metric)
footprint STACKPOLE CSR2512
pins: 1, 2

## CSR2512A0R015F
designator R?
RES SMD 0.015 OHM 1% 2W 2512; Manufacturer: Riedon; Value: 0.015; TemperatureRange: -55C ~ 170C; TemperatureCoefficient: 50ppm/C; Part Number: CSR2512A0R015F; PartId: 21381; Supplier 1: Digi-Key; Supplier Part Number 1: 696-1664-2-ND; ComponentLink1Description: Datasheet; ComponentLink1URL: http://riedon.com/media/pdf/CSR.pdf; ComponentLink2Description: Digi-Key Listing; ComponentLink2URL: https://www.digikey.com/product-detail/en/riedon/CSR2512A0R015F/696-1664-2-ND/5723626; Tolerance: 1%; PowerRating: 2W; Price: 0.1729; Device Package: 2512 (6432 Metric)
footprint STACKPOLE CSR2512
pins: 1, 2

## CSR2512A0R025F
designator R?
RES SMD 0.025 OHM 1% 2W 2512; Manufacturer: Riedon; Value: 0.025; TemperatureRange: -55C ~ 170C; TemperatureCoefficient: 50ppm/C; Part Number: CSR2512A0R025F; PartId: 21377; Supplier 1: Digi-Key; Supplier Part Number 1: 696-1666-2-ND; ComponentLink1Description: Datasheet; ComponentLink1URL: http://riedon.com/media/pdf/CSR.pdf; ComponentLink2Description: Digi-Key Listing; ComponentLink2URL: https://www.digikey.com/product-detail/en/riedon/CSR2512A0R025F/696-1666-2-ND/5723628; Tolerance: 1%; PowerRating: 2W; Price: 0.1729; Device Package: 2512 (6432 Metric)
footprint STACKPOLE CSR2512
pins: 1, 2

## CSR2512A0R075F
designator R?
RES SMD 0.075 OHM 1% 2W 2512; Manufacturer: Riedon; Value: 0.075; TemperatureRange: -55C ~ 170C; TemperatureCoefficient: 50ppm/C; Part Number: CSR2512A0R075F; PartId: 21382; Supplier 1: Digi-Key; Supplier Part Number 1: 696-1670-2-ND; ComponentLink1Description: Datasheet; ComponentLink1URL: http://riedon.com/media/pdf/CSR.pdf; ComponentLink2Description: Digi-Key Listing; ComponentLink2URL: https://www.digikey.com/product-detail/en/riedon/CSR2512A0R075F/696-1670-2-ND/5723632; Tolerance: 1%; PowerRating: 2W; Price: 0.1729; Device Package: 2512 (6432 Metric)
footprint STACKPOLE CSR2512
pins: 1, 2

## CSR2512B0R005F
designator R?
RES SMD 0.005 OHM 1% 2.5W 2512; Manufacturer: Riedon; Value: 0.005; TemperatureRange: -55C ~ 170C; TemperatureCoefficient: 50ppm/C; Part Number: CSR2512B0R005F; PartId: 21408; Supplier 1: Digi-Key; Supplier Part Number 1: 696-1182-2-ND; ComponentLink1Description: Datasheet; ComponentLink1URL: http://riedon.com/media/pdf/CSR.pdf; ComponentLink2Description: Digi-Key Listing; ComponentLink2URL: https://www.digikey.com/product-detail/en/riedon/CSR2512B0R005F/696-1182-2-ND/2813298; Tolerance: 1%; PowerRating: 2.5W; Price: 0.1928; Device Package: 2512 (6432 Metric)
footprint STACKPOLE CSR2512
pins: 1, 2

## CSR2512C0R001F
designator R?
RES SMD 0.001 OHM 1% 3W 2512; Manufacturer: Riedon; Value: 0.001; TemperatureRange: -55C ~ 170C; TemperatureCoefficient: 50ppm/C; Part Number: CSR2512C0R001F; PartId: 21406; Supplier 1: Digi-Key; Supplier Part Number 1: 696-1185-2-ND; ComponentLink1Description: Datasheet; ComponentLink1URL: http://riedon.com/media/pdf/CSR.pdf; ComponentLink2Description: Digi-Key Listing; ComponentLink2URL: https://www.digikey.com/product-detail/en/riedon/CSR2512C0R001F/696-1185-2-ND/2813294; Tolerance: 1%; PowerRating: 3W; Price: 0.1928; Device Package: 2512 (6432 Metric)
footprint STACKPOLE CSR2512
pins: 1, 2

## CSR2512C0R01F
designator R?
RES SMD 0.01 OHM 1% 3W 2512; Manufacturer: Riedon; Value: 0.01; TemperatureRange: -55C ~ 170C; TemperatureCoefficient: 75ppm/C; Part Number: CSR2512C0R01F; PartId: 21359; Supplier 1: Digi-Key; Supplier Part Number 1: 696-1672-2-ND; ComponentLink1Description: Datasheet; ComponentLink1URL: http://riedon.com/media/pdf/CSR.pdf; ComponentLink2Description: Digi-Key Listing; ComponentLink2URL: https://www.digikey.com/product-detail/en/riedon/CSR2512C0R01F/696-1672-2-ND/5723634; Tolerance: 1%; PowerRating: 3W; Price: 0.1729; Device Package: 2512 (6432 Metric)
footprint STACKPOLE CSR2512
pins: 1, 2

## CSR2512C0R1F
designator R?
RES SMD 0.1 OHM 1% 3W 2512; Manufacturer: Riedon; Value: 0.1; TemperatureRange: -55C ~ 170C; TemperatureCoefficient: 50ppm/C; Part Number: CSR2512C0R1F; PartId: 21357; Supplier 1: Digi-Key; Supplier Part Number 1: 696-1680-2-ND; ComponentLink1Description: Datasheet; ComponentLink1URL: http://riedon.com/media/pdf/CSR.pdf; ComponentLink2Description: Digi-Key Listing; ComponentLink2URL: https://www.digikey.com/product-detail/en/riedon/CSR2512C0R1F/696-1680-2-ND/5723642; Tolerance: 1%; PowerRating: 3W; Price: 0.1729; Device Package: 2512 (6432 Metric)
footprint STACKPOLE CSR2512
pins: 1, 2

## CSR2512C0R002F
designator R?
RES SMD 0.002 OHM 1% 3W 2512; Manufacturer: Riedon; Value: 0.002; TemperatureRange: -55C ~ 170C; TemperatureCoefficient: 50ppm/C; Part Number: CSR2512C0R002F; PartId: 21407; Supplier 1: Digi-Key; Supplier Part Number 1: 696-1186-2-ND; ComponentLink1Description: Datasheet; ComponentLink1URL: http://riedon.com/media/pdf/CSR.pdf; ComponentLink2Description: Digi-Key Listing; ComponentLink2URL: https://www.digikey.com/product-detail/en/riedon/CSR2512C0R002F/696-1186-2-ND/2813296; Tolerance: 1%; PowerRating: 3W; Price: 0.1928; Device Package: 2512 (6432 Metric)
footprint STACKPOLE CSR2512
pins: 1, 2

## CSR2512C0R02F
designator R?
RES SMD 0.02 OHM 1% 3W 2512; Manufacturer: Riedon; Value: 0.02; TemperatureRange: -55C ~ 170C; TemperatureCoefficient: 50ppm/C; Part Number: CSR2512C0R02F; PartId: 21360; Supplier 1: Digi-Key; Supplier Part Number 1: 696-1674-2-ND; ComponentLink1Description: Datasheet; ComponentLink1URL: http://riedon.com/media/pdf/CSR.pdf; ComponentLink2Description: Digi-Key Listing; ComponentLink2URL: https://www.digikey.com/product-detail/en/riedon/CSR2512C0R02F/696-1674-2-ND/5723636; Tolerance: 1%; PowerRating: 3W; Price: 0.1729; Device Package: 2512 (6432 Metric)
footprint STACKPOLE CSR2512
pins: 1, 2

## CSR2512C0R03F
designator R?
RES SMD 0.03 OHM 1% 3W 2512; Manufacturer: Riedon; Value: 0.03; TemperatureRange: -55C ~ 170C; TemperatureCoefficient: 50ppm/C; Part Number: CSR2512C0R03F; PartId: 21364; Supplier 1: Digi-Key; Supplier Part Number 1: 696-1676-2-ND; ComponentLink1Description: Datasheet; ComponentLink1URL: http://riedon.com/media/pdf/CSR.pdf; ComponentLink2Description: Digi-Key Listing; ComponentLink2URL: https://www.digikey.com/product-detail/en/riedon/CSR2512C0R03F/696-1676-2-ND/5723638; Tolerance: 1%; PowerRating: 3W; Price: 0.1729; Device Package: 2512 (6432 Metric)
footprint STACKPOLE CSR2512
pins: 1, 2

## CSR2512C0R04F
designator R?
RES SMD 0.04 OHM 1% 3W 2512; Manufacturer: Riedon; Value: 0.04; TemperatureRange: -55C ~ 170C; TemperatureCoefficient: 50ppm/C; Part Number: CSR2512C0R04F; PartId: 21383; Supplier 1: Digi-Key; Supplier Part Number 1: 696-1677-2-ND; ComponentLink1Description: Datasheet; ComponentLink1URL: http://riedon.com/media/pdf/CSR.pdf; ComponentLink2Description: Digi-Key Listing; ComponentLink2URL: https://www.digikey.com/product-detail/en/riedon/CSR2512C0R04F/696-1677-2-ND/5723639; Tolerance: 1%; PowerRating: 3W; Price: 0.1729; Device Package: 2512 (6432 Metric)
footprint STACKPOLE CSR2512
pins: 1, 2

## CSR2512C0R0005F
designator R?
RES SMD 0.0005 OHM 1% 3W 2512; Manufacturer: Riedon; Value: 0.0005; TemperatureRange: -55C ~ 170C; TemperatureCoefficient: 100ppm/C; Part Number: CSR2512C0R0005F; PartId: 21405; Supplier 1: Digi-Key; Supplier Part Number 1: 696-1183-2-ND; ComponentLink1Description: Datasheet; ComponentLink1URL: http://riedon.com/media/pdf/CSR.pdf; ComponentLink2Description: Digi-Key Listing; ComponentLink2URL: https://www.digikey.com/product-detail/en/riedon/CSR2512C0R0005F/696-1183-2-ND/2813293; Tolerance: 1%; PowerRating: 3W; Price: 0.1928; Device Package: 2512 (6432 Metric)
footprint STACKPOLE CSR2512
pins: 1, 2

## CSR2512C0R05F
designator R?
RES SMD 0.05 OHM 1% 3W 2512; Manufacturer: Riedon; Value: 0.05; TemperatureRange: -55C ~ 170C; TemperatureCoefficient: 50ppm/C; Part Number: CSR2512C0R05F; PartId: 21365; Supplier 1: Digi-Key; Supplier Part Number 1: 696-1678-2-ND; ComponentLink1Description: Datasheet; ComponentLink1URL: http://riedon.com/media/pdf/CSR.pdf; ComponentLink2Description: Digi-Key Listing; ComponentLink2URL: https://www.digikey.com/product-detail/en/riedon/CSR2512C0R05F/696-1678-2-ND/5723640; Tolerance: 1%; PowerRating: 3W; Price: 0.1729; Device Package: 2512 (6432 Metric)
footprint STACKPOLE CSR2512
pins: 1, 2

## CSR2512C0R0015F
designator R?
RES SMD 0.0015 OHM 1% 3W 2512; Manufacturer: Riedon; Value: 0.0015; TemperatureRange: -55C ~ 170C; TemperatureCoefficient: 50ppm/C; Part Number: CSR2512C0R0015F; PartId: 21409; Supplier 1: Digi-Key; Supplier Part Number 1: 696-1184-2-ND; ComponentLink1Description: Datasheet; ComponentLink1URL: http://riedon.com/media/pdf/CSR.pdf; ComponentLink2Description: Digi-Key Listing; ComponentLink2URL: https://www.digikey.com/product-detail/en/riedon/CSR2512C0R0015F/696-1184-2-ND/2813295; Tolerance: 1%; PowerRating: 3W; Price: 0.1928; Device Package: 2512 (6432 Metric)
footprint STACKPOLE CSR2512
pins: 1, 2

## CSR2512C0R015F
designator R?
RES SMD 0.015 OHM 1% 3W 2512; Manufacturer: Riedon; Value: 0.015; TemperatureRange: -55C ~ 170C; TemperatureCoefficient: 50ppm/C; Part Number: CSR2512C0R015F; PartId: 21380; Supplier 1: Digi-Key; Supplier Part Number 1: 696-1673-2-ND; ComponentLink1Description: Datasheet; ComponentLink1URL: http://riedon.com/media/pdf/CSR.pdf; ComponentLink2Description: Digi-Key Listing; ComponentLink2URL: https://www.digikey.com/product-detail/en/riedon/CSR2512C0R015F/696-1673-2-ND/5723635; Tolerance: 1%; PowerRating: 3W; Price: 0.1729; Device Package: 2512 (6432 Metric)
footprint STACKPOLE CSR2512
pins: 1, 2

## CSR2512C0R025F
designator R?
RES SMD 0.025 OHM 1% 3W 2512; Manufacturer: Riedon; Value: 0.025; TemperatureRange: -55C ~ 170C; TemperatureCoefficient: 50ppm/C; Part Number: CSR2512C0R025F; PartId: 21363; Supplier 1: Digi-Key; Supplier Part Number 1: 696-1675-2-ND; ComponentLink1Description: Datasheet; ComponentLink1URL: http://riedon.com/media/pdf/CSR.pdf; ComponentLink2Description: Digi-Key Listing; ComponentLink2URL: https://www.digikey.com/product-detail/en/riedon/CSR2512C0R025F/696-1675-2-ND/5723637; Tolerance: 1%; PowerRating: 3W; Price: 0.1729; Device Package: 2512 (6432 Metric)
footprint STACKPOLE CSR2512
pins: 1, 2

## CSR2512C0R075F
designator R?
RES SMD 0.075 OHM 1% 3W 2512; Manufacturer: Riedon; Value: 0.075; TemperatureRange: -55C ~ 170C; TemperatureCoefficient: 50ppm/C; Part Number: CSR2512C0R075F; PartId: 21384; Supplier 1: Digi-Key; Supplier Part Number 1: 696-1679-2-ND; ComponentLink1Description: Datasheet; ComponentLink1URL: http://riedon.com/media/pdf/CSR.pdf; ComponentLink2Description: Digi-Key Listing; ComponentLink2URL: https://www.digikey.com/product-detail/en/riedon/CSR2512C0R075F/696-1679-2-ND/5723641; Tolerance: 1%; PowerRating: 3W; Price: 0.1729; Device Package: 2512 (6432 Metric)
footprint STACKPOLE CSR2512
pins: 1, 2

## CSR2512FG50L0
designator R?, comment 0.05
RES SMD 0.05 OHM 1% 2W 2512; Part Number: CSR2512FG50L0; Manufacturer: Stackpole Electronics Inc.; TemperatureRange: -55C ~ 155C; TemperatureCoefficient: 200ppm/C; Value: 0.05; PartId: 10071; Supplier 1: Digi-Key; Supplier Part Number 1: CSR2512FG50L0TR-ND; ComponentLink1Description: Datasheet; ComponentLink1URL: http://www.seielect.com/catalog/SEI-CSR_CSRN.pdf; ComponentLink2Description: Digi-Key Listing; ComponentLink2URL: https://www.digikey.com/product-detail/en/stackpole-electronics-inc/CSR2512FG50L0/CSR2512FG50L0TR-ND/2027025; Tolerance: 1%; PowerRating: 2W; Price: 0.169; Device Package: 2512 (6432 Metric)
footprint STACKPOLE CSR2512
pins: 1, 2

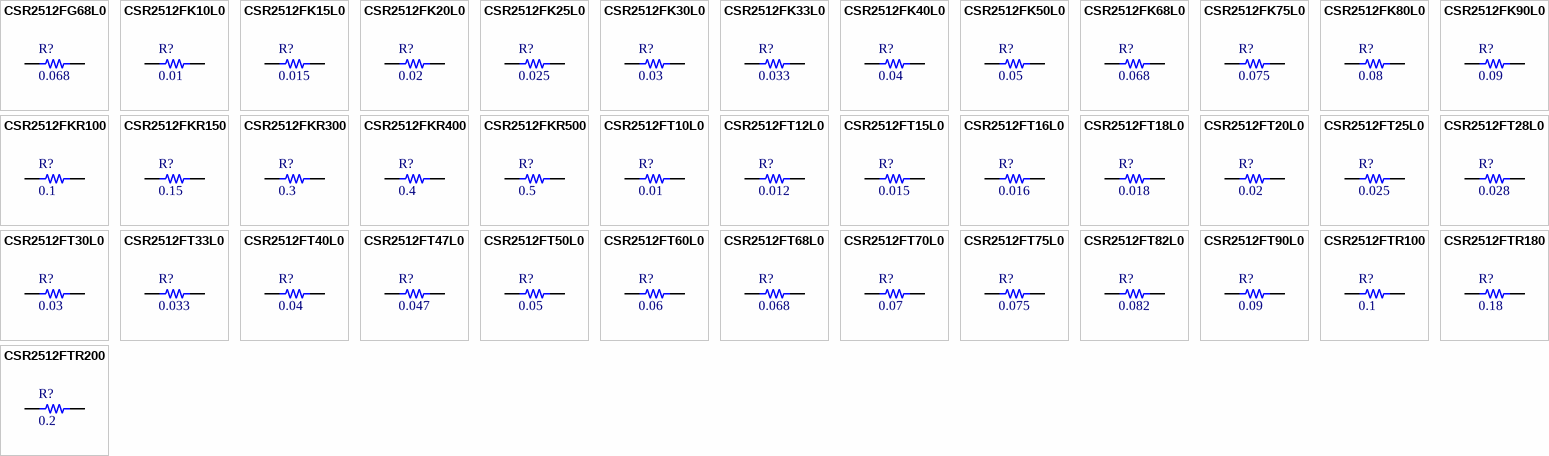
[diagram p7: symbols CSR2512FG68L0 to CSR2512FTR200]

## CSR2512FG68L0
designator R?, comment 0.068
RES SMD 0.068 OHM 1% 2W 2512; Part Number: CSR2512FG68L0; Manufacturer: Stackpole Electronics Inc.; TemperatureRange: -55C ~ 155C; TemperatureCoefficient: 200ppm/C; Value: 0.068; PartId: 10093; Supplier 1: Digi-Key; Supplier Part Number 1: CSR2512FG68L0TR-ND; ComponentLink1Description: Datasheet; ComponentLink1URL: http://www.seielect.com/catalog/SEI-CSR_CSRN.pdf; ComponentLink2Description: Digi-Key Listing; ComponentLink2URL: https://www.digikey.com/product-detail/en/stackpole-electronics-inc/CSR2512FG68L0/CSR2512FG68L0TR-ND/2027026; Tolerance: 1%; PowerRating: 2W; Price: 0; Device Package: 2512 (6432 Metric)
footprint STACKPOLE CSR2512
pins: 1, 2

## CSR2512FK10L0
designator R?, comment 0.01
RES SMD 0.01 OHM 1% 2W 2512; Part Number: CSR2512FK10L0; Manufacturer: Stackpole Electronics Inc.; TemperatureRange: -55C ~ 155C; TemperatureCoefficient: 200ppm/C; Value: 0.01; PartId: 10090; Supplier 1: Digi-Key; Supplier Part Number 1: CSR2512FK10L0-ND; ComponentLink1Description: Datasheet; ComponentLink1URL: http://www.seielect.com/catalog/SEI-CSR_CSRN.pdf; ComponentLink2Description: Digi-Key Listing; ComponentLink2URL: https://www.digikey.com/product-detail/en/stackpole-electronics-inc/CSR2512FK10L0/CSR2512FK10L0-ND/1742503; Tolerance: 1%; PowerRating: 2W; Price: 0.22; Device Package: 2512 (6432 Metric)
footprint STACKPOLE CSR2512
pins: 1, 2

## CSR2512FK15L0
designator R?, comment 0.015
RES SMD 0.015 OHM 1% 2W 2512; Part Number: CSR2512FK15L0; Manufacturer: Stackpole Electronics Inc.; TemperatureRange: -55C ~ 155C; TemperatureCoefficient: 200ppm/C; Value: 0.015; PartId: 10091; Supplier 1: Digi-Key; Supplier Part Number 1: CSR2512FK15L0-ND; ComponentLink1Description: Datasheet; ComponentLink1URL: http://www.seielect.com/catalog/SEI-CSR_CSRN.pdf; ComponentLink2Description: Digi-Key Listing; ComponentLink2URL: https://www.digikey.com/product-detail/en/stackpole-electronics-inc/CSR2512FK15L0/CSR2512FK15L0-ND/1742506; Tolerance: 1%; PowerRating: 2W; Price: 0.22; Device Package: 2512 (6432 Metric)
footprint STACKPOLE CSR2512
pins: 1, 2

## CSR2512FK20L0
designator R?, comment 0.02
RES SMD 0.02 OHM 1% 2W 2512; Part Number: CSR2512FK20L0; Manufacturer: Stackpole Electronics Inc.; TemperatureRange: -55C ~ 155C; TemperatureCoefficient: 200ppm/C; Value: 0.02; PartId: 10092; Supplier 1: Digi-Key; Supplier Part Number 1: CSR2512FK20L0-ND; ComponentLink1Description: Datasheet; ComponentLink1URL: http://www.seielect.com/catalog/SEI-CSR_CSRN.pdf; ComponentLink2Description: Digi-Key Listing; ComponentLink2URL: https://www.digikey.com/product-detail/en/stackpole-electronics-inc/CSR2512FK20L0/CSR2512FK20L0-ND/1742514; Tolerance: 1%; PowerRating: 2W; Price: 0.22; Device Package: 2512 (6432 Metric)
footprint STACKPOLE CSR2512
pins: 1, 2

## CSR2512FK25L0
designator R?, comment 0.025
RES SMD 0.025 OHM 1% 2W 2512; Part Number: CSR2512FK25L0; Manufacturer: Stackpole Electronics Inc.; TemperatureRange: -55C ~ 155C; TemperatureCoefficient: 200ppm/C; Value: 0.025; PartId: 10079; Supplier 1: Digi-Key; Supplier Part Number 1: CSR2512FK25L0-ND; ComponentLink1Description: Datasheet; ComponentLink1URL: http://www.seielect.com/catalog/SEI-CSR_CSRN.pdf; ComponentLink2Description: Digi-Key Listing; ComponentLink2URL: https://www.digikey.com/product-detail/en/stackpole-electronics-inc/CSR2512FK25L0/CSR2512FK25L0-ND/1742516; Tolerance: 1%; PowerRating: 2W; Price: 0.1787; Device Package: 2512 (6432 Metric)
footprint STACKPOLE CSR2512
pins: 1, 2

## CSR2512FK30L0
designator R?, comment 0.03
RES SMD 0.03 OHM 1% 2W 2512; Part Number: CSR2512FK30L0; Manufacturer: Stackpole Electronics Inc.; TemperatureRange: -55C ~ 155C; TemperatureCoefficient: 200ppm/C; Value: 0.03; PartId: 10080; Supplier 1: Digi-Key; Supplier Part Number 1: CSR2512FK30L0-ND; ComponentLink1Description: Datasheet; ComponentLink1URL: http://www.seielect.com/catalog/SEI-CSR_CSRN.pdf; ComponentLink2Description: Digi-Key Listing; ComponentLink2URL: https://www.digikey.com/product-detail/en/stackpole-electronics-inc/CSR2512FK30L0/CSR2512FK30L0-ND/1742519; Tolerance: 1%; PowerRating: 2W; Price: 0.1787; Device Package: 2512 (6432 Metric)
footprint STACKPOLE CSR2512
pins: 1, 2